# Altium footprint library CE_10x15.PcbLib: 1 footprints
Each footprint in its own frame and in the unit in brackets; x right, y up, seen from the top. Pads: shape width x height; smd on the part's side, far side on the other; paste and mask are expansions set on the pad; w line width, h text height; cw(c..) or ccw(c..) is an arc to the next point about the centre after c.
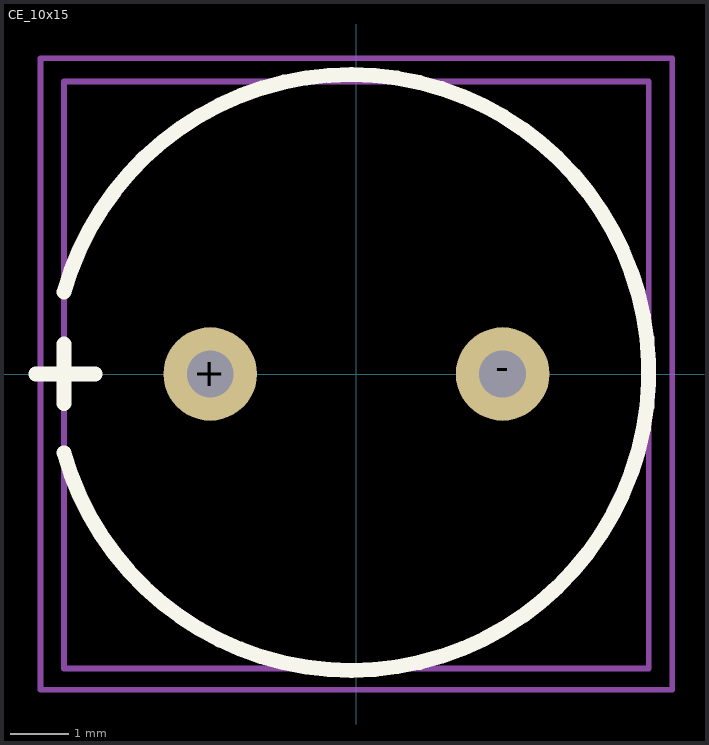
[diagram p0: the footprint, top view; thin cyan lines are the x and y axes]

## CE_10x15 [mm]
height 15
pads (2):
  round 1.6 hole 0.8: +(-2.5,0) -(2.5,0)
Top Overlay:
  lines w0.254: -5.481,0 -4.465,0 ; -5,-1.347 ccw(c-0.094,0.026) -5,1.4 ; -5,-0.504 -5,0.512
Top Assembly:
  lines w0.1: -5,-5.033 -5,5 5,5 5,-5.033 -5,-5.033
Top Courtyard:
  lines w0.1: -5.4,-5.4 -5.4,5.4 5.4,5.4 5.4,-5.4 -5.4,-5.4
Top Designator:
  text ".Designator" at -7.59,-0.508 h1.52
3D body "ElCapVT-5.0-10x16-black.STEP": height 16, standoff -3, extent -5,-5 5.001,5